# Altium schematic symbol library 1.SchLib: 2 symbols
Pins are listed as number, name and electrical type; pins without a type are passive.

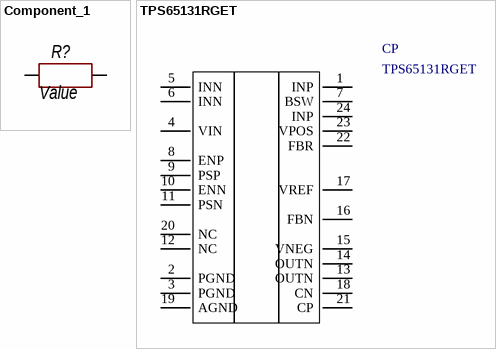
[diagram p0: symbols Component_1 to TPS65131RGET]

## Component_1
designator R?, comment Value
Parameter 1: Models; Parameter 2: Manufacture; Parameter 3: HelpURL; Parameter 4: Componentkind; Parameter 5: Value
footprint R0805
pins: 1 0, 2

## TPS65131RGET
designator CP
DC-DC stepUp; Manufacture: TEXAS INSTRUMENT; Models: TPS65131RGET; URL: https://www.digikey.com/product-detail/en/texas-instruments/TPS65131RGET/296-17349-1-ND/686903
pins: 1 INP, 2 PGND, 3 PGND, 4 VIN, 5 INN, 6 INN, 7 BSW, 8 ENP, 9 PSP, 10 ENN, 11 PSN, 12 NC, 13 OUTN, 14 OUTN, 15 VNEG, 16 FBN, 17 VREF, 18 CN, 19 AGND, 20 NC, 21 CP, 22 FBR, 23 VPOS, 24 INP